# EAGLE library part AD7794 (library spietz-library-2)
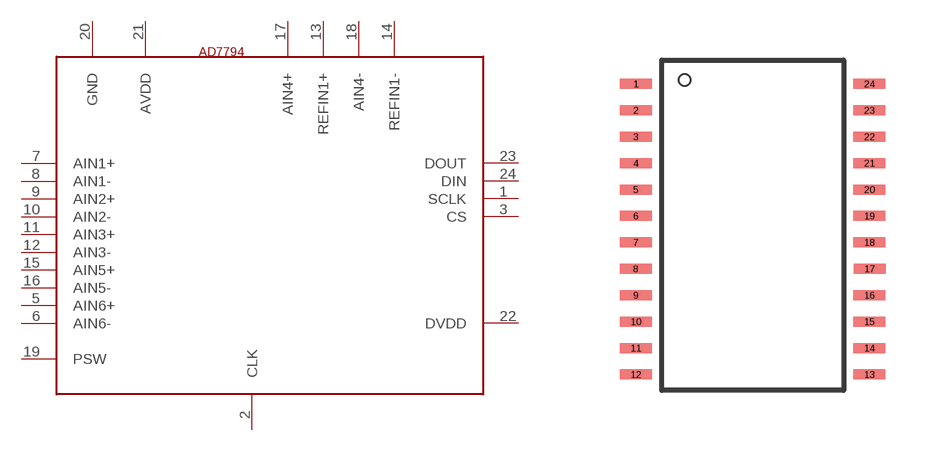
[diagram p7: symbol with the pads of AD7794; footprint AD7794]

Designator prefix -

## AD7794  [AD7794]
1  SCLK
2  CLK
3  CS
5  AIN6+
6  AIN6-
7  AIN1+
8  AIN1-
9  AIN2+
10  AIN2-
11  AIN3+
12  AIN3-
13  REFIN1+
14  REFIN1-
15  AIN5+
16  AIN5-
17  AIN4+
18  AIN4-
19  PSW
20  GND
21  AVDD
22  DVDD
23  DOUT
24  DIN

## Footprint AD7794 (pad centres in mm)
smd 0.8 x 0.25: 1 -2.921,4.623; 2 -2.921,3.962; 3 -2.921,3.302; 4 -2.921,2.642; 5 -2.921,1.981; 6 -2.921,1.321; 7 -2.921,0.66; 8 -2.927,0; 9 -2.921,-0.66; 10 -2.921,-1.321; 11 -2.921,-1.981; 12 -2.921,-2.642; 13 2.921,-2.642; 14 2.921,-1.981; 15 2.921,-1.321; 16 2.921,-0.66; 17 2.927,0; 18 2.921,0.66; 19 2.921,1.321; 20 2.921,1.981; 21 2.921,2.642; 22 2.921,3.302; 23 2.921,3.962; 24 2.921,4.623